# Altium footprint library 1206.PcbLib: 1 footprints
Each footprint in its own frame and in the unit in brackets; x right, y up, seen from the top. Pads: shape width x height; smd on the part's side, far side on the other; paste and mask are expansions set on the pad; w line width, h text height; cw(c..) or ccw(c..) is an arc to the next point about the centre after c.
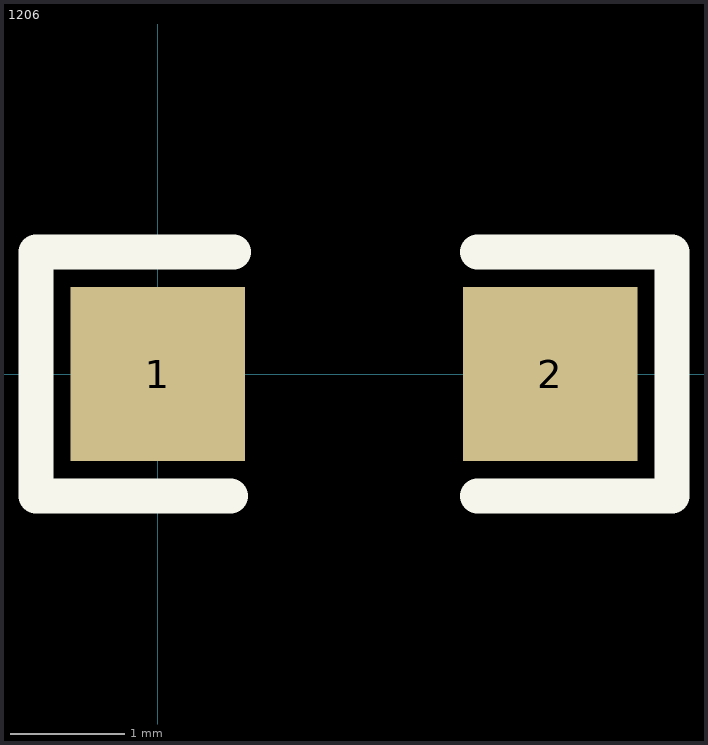
[diagram p0: the footprint, top view; thin cyan lines are the x and y axes]

## 1206 [mil]
height 40
pads (2):
  rect 60x60 smd: 1(0,0) 2(135,0)
TopOverlay:
  lines w12: 25,-42 -42,-42 -42,42 26,42 ; 110,-42 177,-42 177,42 110,42
Mechanical4:
  text ".045" at 0,0 h1
3D body: height 40.05, standoff 0.6, extent 4.44,-31.01 130.43,31.98